# EAGLE library part AS-ITM-00155 (library tinycircuits)
IC TXRX RS-232 3.3V 15KV 16QSOP
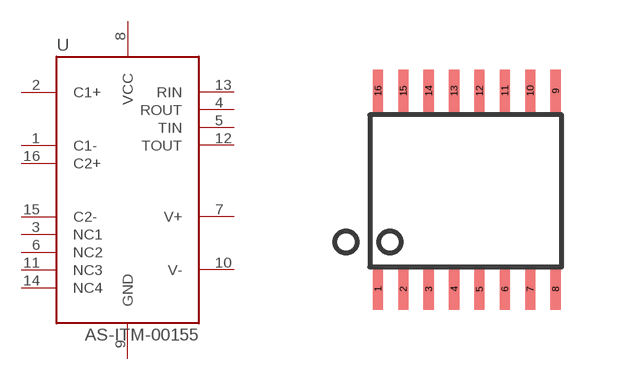
[diagram p69: symbol with the pads of ADM3101EARQZ; footprint ADM3101EARQZ]

Designator prefix U

## AS-ITM-00155 (PARTNO: AS-ITM-00155; VALUE: ADM3101EARQZ-REEL)  [ADM3101EARQZ]
1  C1-
2  C1+
3  NC1
4  ROUT
5  TIN
6  NC2
7  V+
8  VCC
9  GND
10  V-
11  NC3
12  TOUT
13  RIN
14  NC4
15  C2-
16  C2+

## Footprint ADM3101EARQZ (pad centres in mm)
smd 0.254 x 1.041: 1 -2.2,-2.45; 2 -1.565,-2.45; 3 -0.93,-2.45; 4 -0.295,-2.45; 5 0.34,-2.45; 6 0.975,-2.45; 7 1.61,-2.45; 8 2.245,-2.45; 9 2.245,2.503; 10 1.61,2.503; 11 0.975,2.503; 12 0.34,2.503; 13 -0.295,2.503; 14 -0.93,2.503; 15 -1.565,2.503; 16 -2.2,2.503